# Altium footprint library L717SDE09P1ACH.PcbLib: 1 footprints
Each footprint in its own frame and in the unit in brackets; x right, y up, seen from the top. Pads: shape width x height; smd on the part's side, far side on the other; paste and mask are expansions set on the pad; w line width, h text height; cw(c..) or ccw(c..) is an arc to the next point about the centre after c.
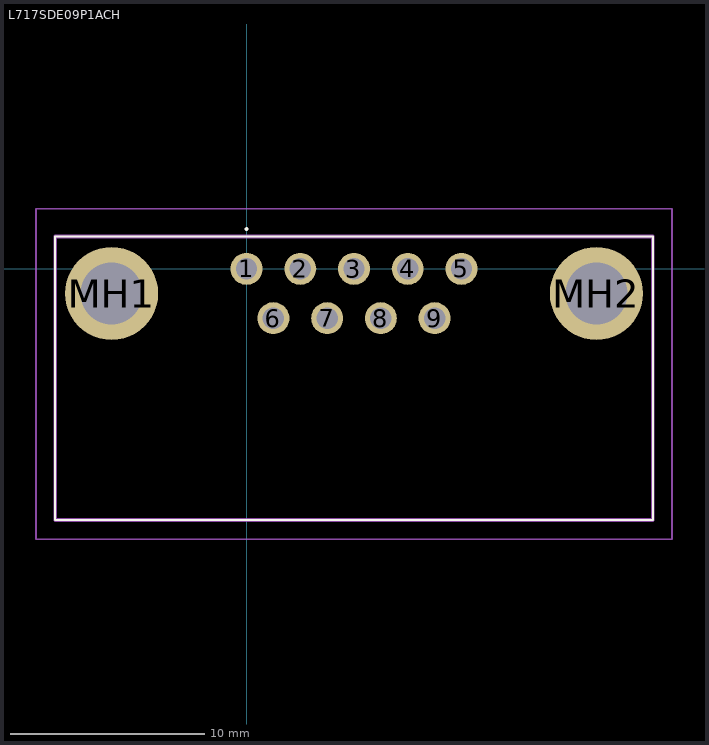
[diagram p0: the footprint, top view; thin cyan lines are the x and y axes]

## L717SDE09P1ACH [mm]
pads (11):
  round 1.65 hole 1.1: 1(0,0) 2(2.77,0) 3(5.54,0) 4(8.31,0) 5(11.08,0) 6(1.385,-2.54) 7(4.155,-2.54) 8(6.925,-2.54) 9(9.695,-2.54)
  round 4.8 hole 3.2: MH1(-6.955,-1.27) MH2(18.035,-1.27)
Top Overlay:
  lines w0.1: 0,2 0,2 ; 0,2 ccw(c0,2.05) 0,2.1 ; 0,2 cw(c0,2.05) 0,2.1 ; 0,2.1 0,2.1 ; -9.865,-12.94 20.945,-12.94 20.945,1.66 -9.865,1.66 -9.865,-12.94
Mechanical 15:
  lines w0.2: -9.865,-12.94 20.945,-12.94 20.945,1.66 -9.865,1.66 -9.865,-12.94
Mechanical 20:
  lines w0.1: -10.865,-13.94 21.945,-13.94 21.945,3.1 -10.865,3.1 -10.865,-13.94
3D body "L717SDE09P1ACH.stp": height 5.8, standoff -4.65, extent -10,-3.376 10,3.376